# Altium schematic symbol library Schematic Linear集成芯片.SchLib: 41 symbols
Pins are listed as number, name and electrical type; pins without a type are passive.

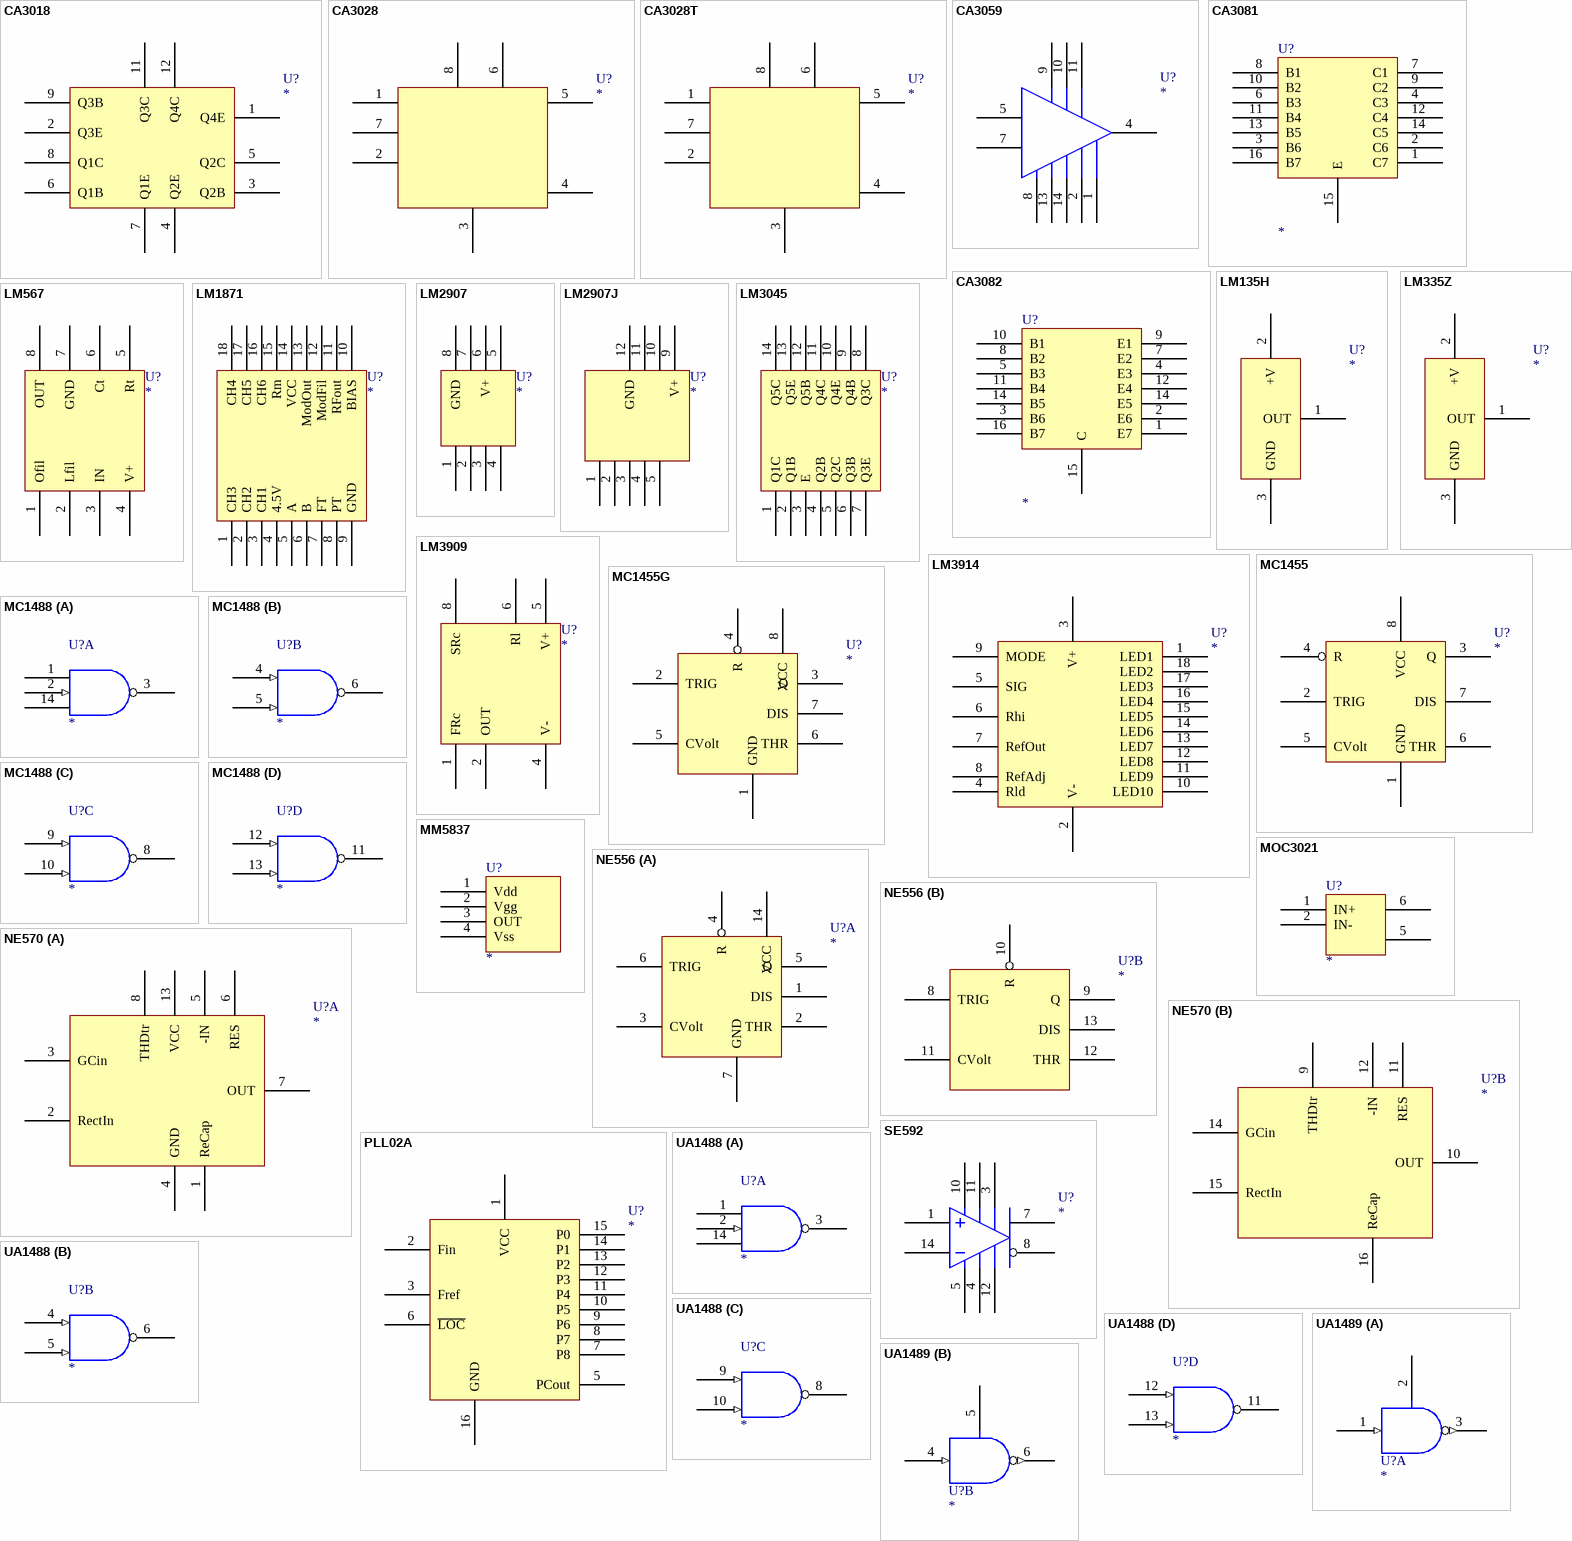
[diagram p0: symbols CA3018 to UA1489]

## CA3018
designator U?
footprint METAL12
pins: 1 Q4E, 2 Q3E, 3 Q2B, 4 Q2E, 5 Q2C, 6 Q1B, 7 Q1E, 8 Q1C, 9 Q3B, 11 Q3C, 12 Q4C

## CA3028
designator U?
footprint DIP-8
pins: 1, 2, 3, 4, 5, 6, 7, 8

## CA3028T
designator U?
footprint METAL8
pins: 1, 2, 3, 4, 5, 6, 7, 8

## CA3059
designator U?
footprint DIP-14
pins: 1, 2, 4, 5, 7, 8, 9, 10, 11, 13, 14

## CA3081
designator U?
footprint DIP-16
pins: 1 C7, 2 C6, 3 B6, 4 C3, 6 B3, 7 C1, 8 B1, 9 C2, 10 B2, 11 B4, 12 C4, 13 B5, 14 C5, 15 E, 16 B7

## CA3082
designator U?
footprint DIP-16
pins: 1 E7, 2 E6, 3 B6, 4 E3, 5 B3, 7 E2, 8 B2, 9 E1, 10 B1, 11 B4, 12 E4, 14 B5, 14 E5, 15 C, 16 B7

## LM135H
designator U?
footprint TO-46
pins: 1 OUT, 2 +V, 3 GND

## LM335Z
designator U?
footprint TO-92A
pins: 1 OUT, 2 +V, 3 GND

## LM567
designator U?
footprint DIP-8
pins: 1 Ofil, 2 Lfil, 3 IN, 4 V+, 5 Rt, 6 Ct, 7 GND, 8 OUT

## LM1871
designator U?
footprint DIP-18
pins: 1 CH3, 2 CH2, 3 CH1, 4 4.5V, 5 A, 6 B, 7 FT, 8 PT, 9 GND, 10 BIAS, 11 RFout, 12 ModFil, 13 ModOut, 14 VCC, 15 Rm, 16 CH6, 17 CH5, 18 CH4

## LM2907
designator U?
footprint DIP-8
pins: 1, 2, 3, 4, 5, 6 V+, 7, 8 GND

## LM2907J
designator U?
footprint DIP-14
pins: 1, 2, 3, 4, 5, 9 V+, 10, 11, 12 GND

## LM3045
designator U?
footprint DIP-14
pins: 1 Q1C, 2 Q1B, 3 E, 4 Q2B, 5 Q2C, 6 Q3B, 7 Q3E, 8 Q3C, 9 Q4B, 10 Q4E, 11 Q4C, 12 Q5B, 13 Q5E, 14 Q5C

## LM3909
designator U?
footprint DIP-8
pins: 1 FRc, 2 OUT, 4 V-, 5 V+, 6 Rl, 8 SRc

## LM3914
designator U?
footprint DIP-18
pins: 1 LED1, 2 V-, 3 V+, 4 Rld, 5 SIG, 6 Rhi, 7 RefOut, 8 RefAdj, 9 MODE, 10 LED10, 11 LED9, 12 LED8, 13 LED7, 14 LED6, 15 LED5, 16 LED4, 17 LED3, 18 LED2

## MC1455
designator U?
footprint DIP-8
pins: 1 GND, 2 TRIG, 3 Q, 4 R, 5 CVolt, 6 THR, 7 DIS, 8 VCC

## MC1455G
designator U?
footprint METAL8
pins: 1 GND, 2 TRIG, 3 Q, 4 R, 5 CVolt, 6 THR, 7 DIS, 8 VCC

## MC1488
designator U?
footprint DIP-14
part A pins: 1 -V (power), 2 (in), 3 (oc), 7 GND (power) hidden to GND, 14 +V (power)
part B pins: 4 (in), 5 (in), 6 (oc), 7 GND (power) hidden to GND
part C pins: 7 GND (power) hidden to GND, 8 (oc), 9 (in), 10 (in)
part D pins: 7 GND (power) hidden to GND, 11 (oc), 12 (in), 13 (in)

## MM5837
designator U?
footprint DIP-8
pins: 1 Vdd, 2 Vgg, 3 OUT, 4 Vss

## MOC3021
designator U?
footprint DIP-6
pins: 1 IN+, 2 IN-, 5, 6

## NE556
designator U?
footprint DIP-14
part A pins: 1 DIS, 2 THR, 3 CVolt, 4 R, 5 Q, 6 TRIG, 7 GND, 14 VCC
part B pins: 8 TRIG, 9 Q, 10 R, 11 CVolt, 12 THR, 13 DIS

## NE570
designator U?
footprint DIP-16
part A pins: 1 ReCap, 2 RectIn, 3 GCin, 4 GND, 5 -IN, 6 RES, 7 OUT, 8 THDtr, 13 VCC
part B pins: 9 THDtr, 10 OUT, 11 RES, 12 -IN, 14 GCin, 15 RectIn, 16 ReCap

## PLL02A
designator U?
footprint DIP-16
pins: 1 VCC, 2 Fin, 3 Fref, 5 PCout, 6 ~{LOC}, 7 P8, 8 P7, 9 P6, 10 P5, 11 P4, 12 P3, 13 P2, 14 P1, 15 P0, 16 GND

## SE592
designator U?
footprint DIP-14
pins: 1, 3, 4, 5, 7, 8, 10, 11, 12, 14

## UA1488
designator U?
footprint DIP-14
part A pins: 1 -V (power), 2 (in), 3 (oc), 7 GND (power) hidden to GND, 14 +V (power)
part B pins: 4 (in), 5 (in), 6 (oc), 7 GND (power) hidden to GND
part C pins: 7 GND (power) hidden to GND, 8 (oc), 9 (in), 10 (in)
part D pins: 7 GND (power) hidden to GND, 11 (oc), 12 (in), 13 (in)

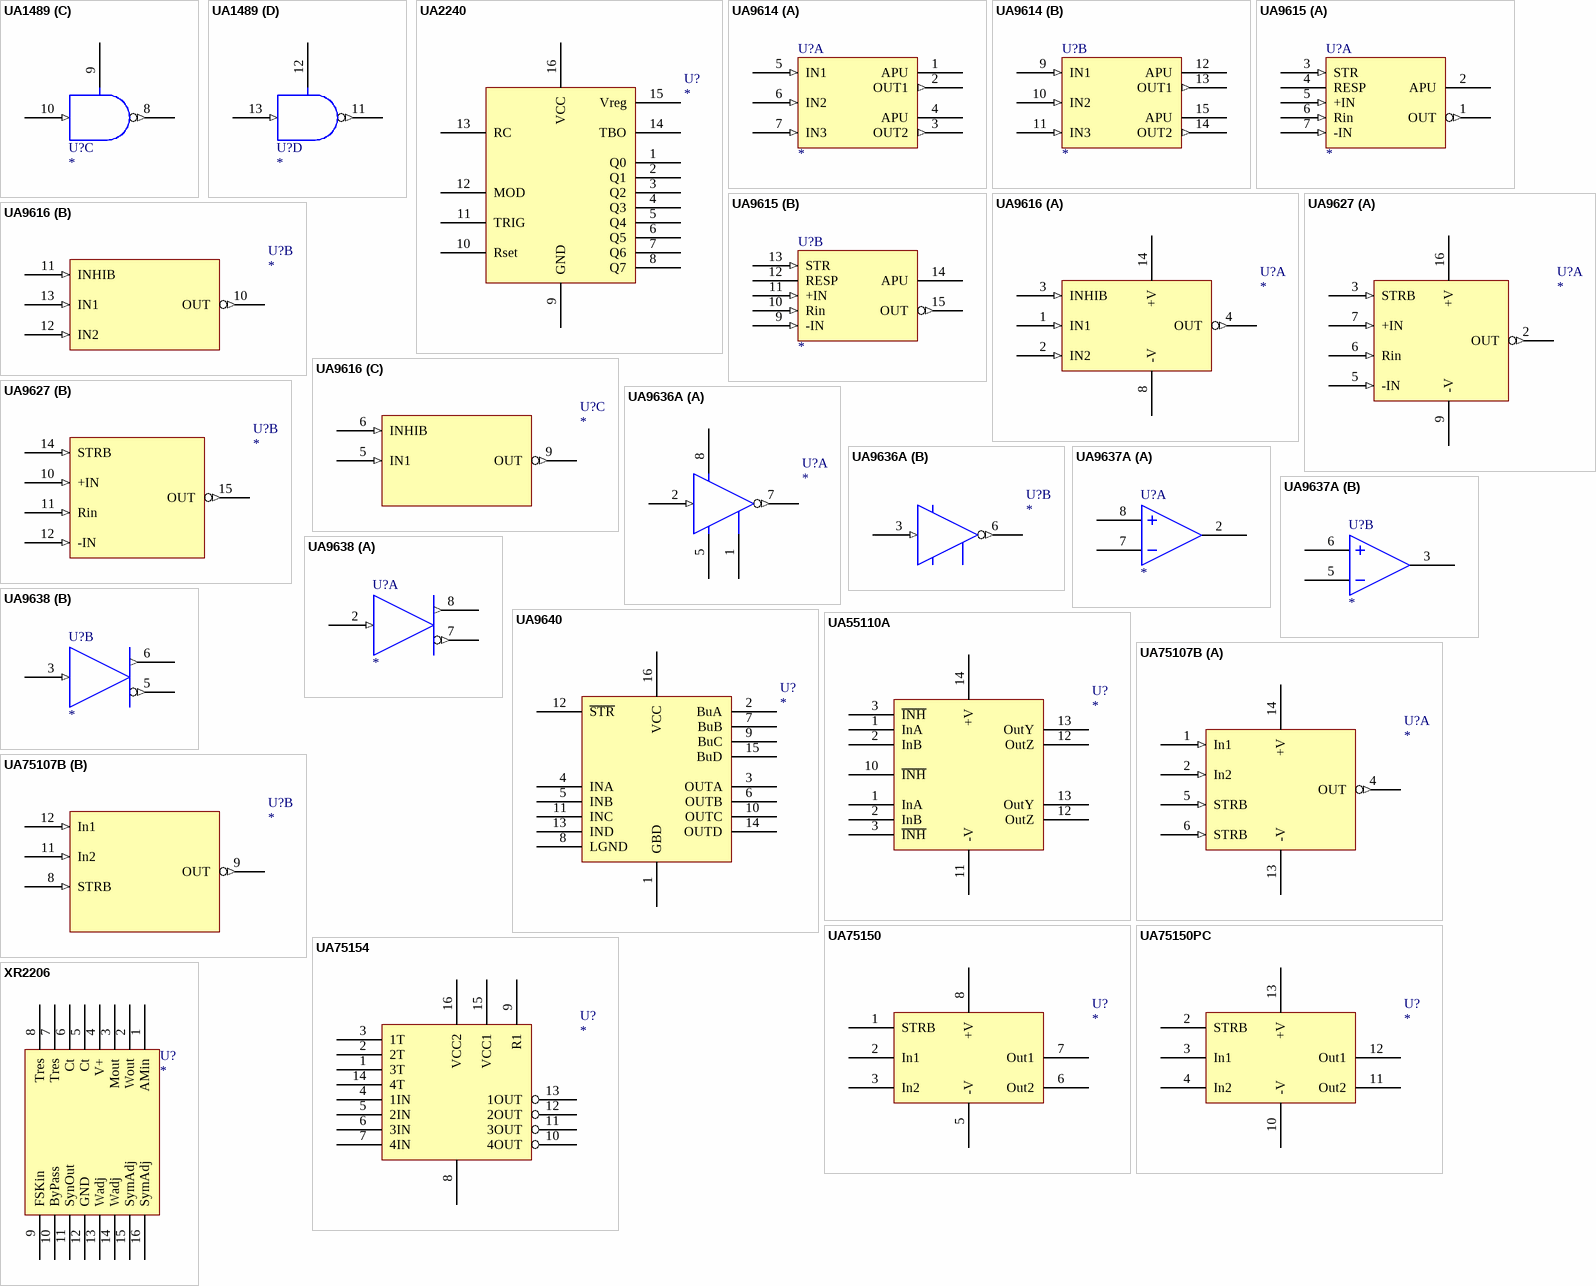
[diagram p1: symbols UA1489 to XR2206]

## UA1489
designator U?
footprint DIP-14
part A pins: 1 (in), 2, 3 (out), 7 GND (power) hidden to GND, 14 VCC (power) hidden to VCC
part B pins: 4 (in), 5, 6 (out), 7 GND (power) hidden to GND, 14 VCC (power) hidden to VCC
part C pins: 7 GND (power) hidden to GND, 8 (out), 9, 10 (in), 14 VCC (power) hidden to VCC
part D pins: 7 GND (power) hidden to GND, 11 (out), 12, 13 (in), 14 VCC (power) hidden to VCC

## UA2240
designator U?
footprint DIP-16
pins: 1 Q0, 2 Q1, 3 Q2, 4 Q3, 5 Q4, 6 Q5, 7 Q6, 8 Q7, 9 GND, 10 Rset, 11 TRIG, 12 MOD, 13 RC, 14 TBO, 15 Vreg, 16 VCC

## UA9614
designator U?
footprint DIP-16
part A pins: 1 APU, 2 OUT1 (out), 3 OUT2 (out), 4 APU, 5 IN1 (in), 6 IN2 (in), 7 IN3 (in), 8 GND (power) hidden to GND, 16 VCC (power) hidden to VCC
part B pins: 8 GND (power) hidden to GND, 9 IN1 (in), 10 IN2 (in), 11 IN3 (in), 12 APU, 13 OUT1 (out), 14 OUT2 (out), 15 APU, 16 VCC (power) hidden to VCC

## UA9615
designator U?
footprint DIP-16
part A pins: 1 OUT (out), 2 APU, 3 STR (in), 4 RESP, 5 +IN (in), 6 Rin (in), 7 -IN (in), 8 GND (power) hidden to GND, 16 VCC (power) hidden to VCC
part B pins: 8 GND (power) hidden to GND, 9 -IN (in), 10 Rin (in), 11 +IN (in), 12 RESP, 13 STR (in), 14 APU, 15 OUT (out), 16 VCC (power) hidden to VCC

## UA9616
designator U?
footprint DIP-14
part A pins: 1 IN1 (in), 2 IN2 (in), 3 INHIB (in), 4 OUT (out), 7 GND (power) hidden to GND, 8 -V, 14 +V
part B pins: 7 GND (power) hidden to GND, 10 OUT (out), 11 INHIB (in), 12 IN2 (in), 13 IN1 (in)
part C pins: 5 IN1 (in), 6 INHIB (in), 7 GND (power) hidden to GND, 9 OUT (out)

## UA9627
designator U?
footprint DIP-16
part A pins: 2 OUT (out), 3 STRB (in), 5 -IN (in), 6 Rin (in), 7 +IN (in), 8 GND (power) hidden to GND, 9 -V, 16 +V
part B pins: 8 GND (power) hidden to GND, 10 +IN (in), 11 Rin (in), 12 -IN (in), 14 STRB (in), 15 OUT (out)

## UA9636A
designator U?
footprint DIP-8
part A pins: 1, 2 (in), 4 GND (power) hidden to GND, 5, 7 (out), 8
part B pins: 3 (in), 4 GND (power) hidden to GND, 6 (out)

## UA9637A
designator U?
footprint DIP-8
part A pins: 1 VCC (power) hidden to VCC, 2, 4 GND (power) hidden to GND, 7, 8
part B pins: 1 VCC (power) hidden to VCC, 3, 4 GND (power) hidden to GND, 5, 6

## UA9638
designator U?
footprint DIP-8
part A pins: 1 VCC (power) hidden to VCC, 2 (in), 4 GND (power) hidden to GND, 7 (out), 8 (out)
part B pins: 1 VCC (power) hidden to VCC, 3 (in), 4 GND (power) hidden to GND, 5 (out), 6 (out)

## UA9640
designator U?
footprint DIP-16
pins: 1 GBD, 2 BuA, 3 OUTA, 4 INA, 5 INB, 6 OUTB, 7 BuB, 8 LGND, 9 BuC, 10 OUTC, 11 INC, 12 ~{STR}, 13 IND, 14 OUTD, 15 BuD, 16 VCC

## UA55110A
designator U?
footprint DIP-14
pins: 1 InA, 1 InA, 2 InB, 2 InB, 3 ~{INH}, 3 ~{INH}, 7 GND (power) hidden to GND, 10 ~{INH}, 11 -V, 12 OutZ, 12 OutZ, 13 OutY, 13 OutY, 14 +V

## UA75107B
designator U?
footprint DIP-14
part A pins: 1 In1 (in), 2 In2 (in), 4 OUT (out), 5 STRB (in), 6 STRB (in), 7 GND (power) hidden to GND, 13 -V, 14 +V
part B pins: 7 GND (power) hidden to GND, 8 STRB (in), 9 OUT (out), 11 In2 (in), 12 In1 (in)

## UA75150
designator U?
footprint DIP-8
pins: 1 STRB, 2 In1, 3 In2, 4 GND (power) hidden to GND, 5 -V, 6 Out2, 7 Out1, 8 +V

## UA75150PC
designator U?
footprint DIP-14
pins: 2 STRB, 3 In1, 4 In2, 5 GND (power) hidden to GND, 10 -V, 11 Out2, 12 Out1, 13 +V

## UA75154
designator U?
footprint DIP-16
pins: 1 3T, 2 2T, 3 1T, 4 1IN, 5 2IN, 6 3IN, 7 4IN, 8, 9 R1, 10 4OUT, 11 3OUT, 12 2OUT, 13 1OUT, 14 4T, 15 VCC1, 16 VCC2

## XR2206
designator U?
footprint DIP-16
pins: 1 AMin, 2 Wout, 3 Mout, 4 V+, 5 Ct, 6 Ct, 7 Tres, 8 Tres, 9 FSKin, 10 ByPass, 11 SynOut, 12 GND, 13 Wadj, 14 Wadj, 15 SymAdj, 16 SymAdj